# Altium schematic symbol library CY15B116QN-40BKXI.SchLib: 1 symbol
Pins are listed as number, name and electrical type; pins without a type are passive.

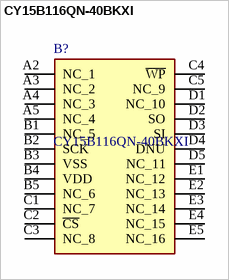
[diagram p0: symbol CY15B116QN-40BKXI]

## CY15B116QN-40BKXI
designator B?
Manufacturer_Name: Infineon; Geometry.Height: 1.2mm; Mouser Part Number: 727-CY15B116QN40BKXI; Mouser Price/Stock: https://www.mouser.co.uk/ProductDetail/Infineon-Technologies/CY15B116QN-40BKXI?qs=vvQtp7zwQdPnw7xP166xGg%3D%3D; Manufacturer_Part_Number: CY15B116QN-40BKXI; Description: CY15B116QN-40BKXI; Datasheet Link: https://www.infineon.com/dgdl/Infineon-CY15B116QN-40BKXIE-DataSheet-v06_00-EN.pdf?fileId=8ac78c8c7d0d8da4017d0eea4dc6734b
footprint BGA24C100P5X5_600X800X120
pins: A2 NC_1, A3 NC_2, A4 NC_3, A5 NC_4, B1 NC_5, B2 SCK, B3 VSS, B4 VDD, B5 NC_6, C1 NC_7, C2 ~{CS}, C3 NC_8, C4 ~{WP}, C5 NC_9, D1 NC_10, D2 SO, D3 SI, D4 DNU, D5 NC_11, E1 NC_12, E2 NC_13, E3 NC_14, E4 NC_15, E5 NC_16